# EAGLE library part DRV8821 (library My_TI)
DRV8821 DUAL STEPPER MOTOR CONTROLLER/DRIVER 8-V to 32-V Operating Supply Voltage Range Up to 1.5-A Current Per Winding Up to 1.5-A Current Per Winding Datasheet <http://www.ti.com/lit/ds/symlink/drv8821.pdf>
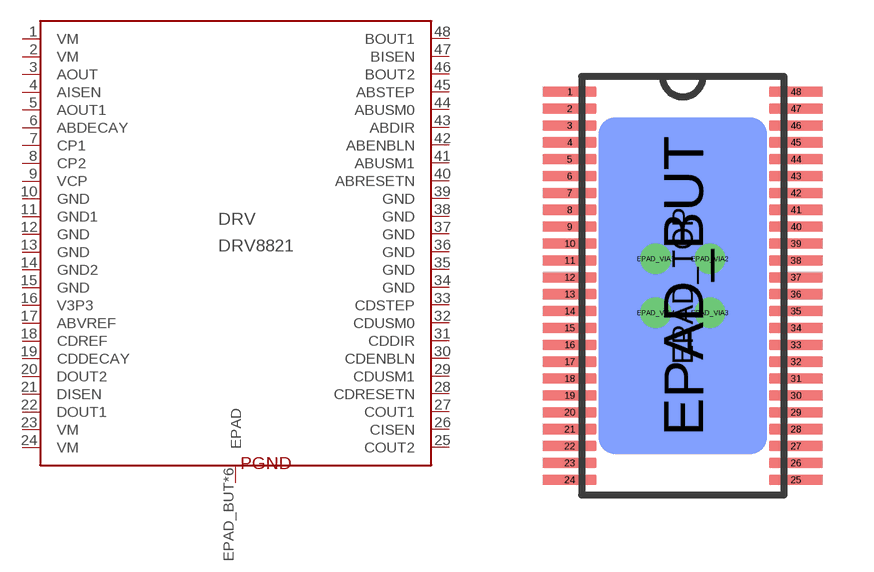
[diagram p20: symbol with the pads of HTSSOP_48; footprint HTSSOP_48]

Designator prefix DRV

## DRV8821  [HTSSOP_48]
1  VM  pwr
2  VM  pwr
3  AOUT  out
4  AISEN
5  AOUT1  out
6  ABDECAY
7  CP1
8  CP2
9  VCP
10  GND  pwr
11  GND1  pwr
12  GND  pwr
13  GND  pwr
14  GND2  pwr
15  GND  pwr
16  V3P3  out
17  ABVREF  in
18  CDREF  in
19  CDDECAY  in
20  DOUT2  out
21  DISEN
22  DOUT1  out
23  VM  pwr
24  VM  pwr
25  COUT2  out
26  CISEN
27  COUT1  out
28  CDRESETN  in
29  CDUSM1  in
30  CDENBLN  in
31  CDDIR  in
32  CDUSM0  in
33  CDSTEP  in
34  GND  pwr
35  GND  pwr
36  GND  pwr
37  GND  pwr
38  GND  pwr
39  GND  pwr
40  ABRESETN  in
41  ABUSM1  in
42  ABENBLN  in
43  ABDIR  in
44  ABUSM0  in
45  ABSTEP  in
46  BOUT2  out
47  BISEN
48  BOUT1  out
EPAD_BUT  EPAD  pwr
EPAD_TOP  EPAD  pwr
EPAD_VIA1  EPAD  pwr
EPAD_VIA2  EPAD  pwr
EPAD_VIA3  EPAD  pwr
EPAD_VIA4  EPAD  pwr

## Footprint HTSSOP_48 (pad centres in mm)
HTSSOP_48 Auto generated by make-symbol-device-package-bsdl.ulp Rev. 43
smd 1.6 x 0.3: 1 -3.35,5.75; 2 -3.35,5.25; 3 -3.35,4.75; 4 -3.35,4.25; 5 -3.35,3.75; 6 -3.35,3.25; 7 -3.35,2.75; 8 -3.35,2.25; 9 -3.35,1.75; 10 -3.35,1.25; 11 -3.35,0.75; 12 -3.35,0.25; 13 -3.35,-0.25; 14 -3.35,-0.75; 15 -3.35,-1.25; 16 -3.35,-1.75; 17 -3.35,-2.25; 18 -3.35,-2.75; 19 -3.35,-3.25; 20 -3.35,-3.75; 21 -3.35,-4.25; 22 -3.35,-4.75; 23 -3.35,-5.25; 24 -3.35,-5.75; 25 3.35,-5.75; 26 3.35,-5.25; 27 3.35,-4.75; 28 3.35,-4.25; 29 3.35,-3.75; 30 3.35,-3.25; 31 3.35,-2.75; 32 3.35,-2.25; 33 3.35,-1.75; 34 3.35,-1.25; 35 3.35,-0.75; 36 3.35,-0.25; 37 3.35,0.25; 38 3.35,0.75; 39 3.35,1.25; 40 3.35,1.75; 41 3.35,2.25; 42 3.35,2.75; 43 3.35,3.25; 44 3.35,3.75; 45 3.35,4.25; 46 3.35,4.75; 47 3.35,5.25; 48 3.35,5.75
smd 5 x 10 bottom: EPAD_BUT 0,0
smd 3.65 x 3.7: EPAD_TOP 0,0
drill 0.4: EPAD_VIA1 -0.8,0.8; EPAD_VIA2 0.8,0.8; EPAD_VIA3 0.8,-0.8; EPAD_VIA4 -0.8,-0.8